# EAGLE library part TRHEI?-2 (library #PaJa_31)
Transformator - do DPS - 2x sek. 202 - 0,35 VA 304 - 2,6 VA 382 - 4,5 VA 422 - 6 VA 481 - 10 VA
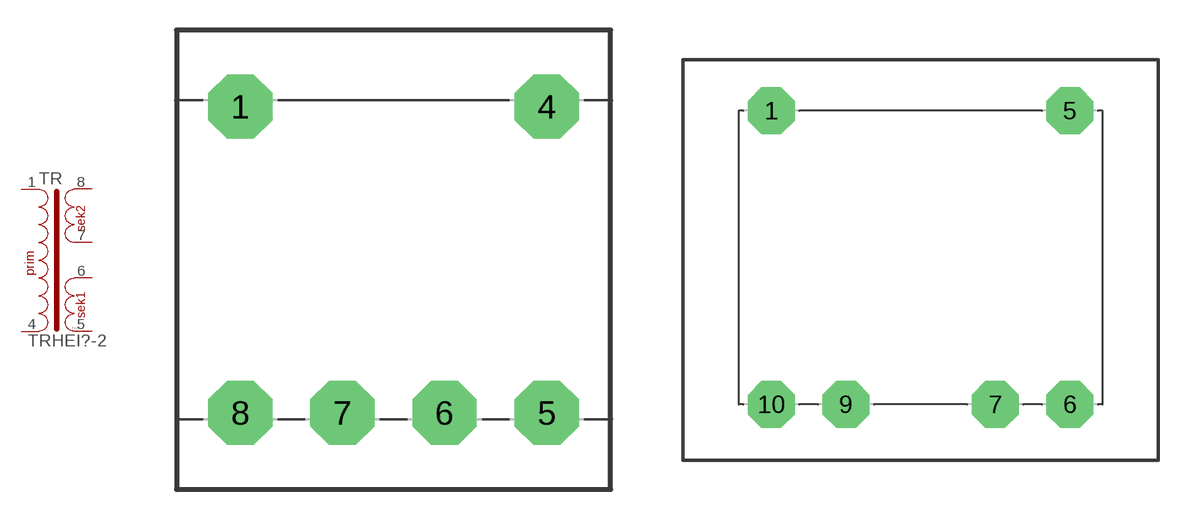
[diagram p24: symbol with the pads of TRHEI202; footprints TRHEI202, TRHEI304]

Designator prefix TR

## TRHEI202-2  [TRHEI202]
1  P1  pas
4  P2  pas
5  S1-1  pas
6  S1-2  pas
7  S2-1  pas
8  S2-2  pas

## TRHEI304-2  [TRHEI304]
1  P1  pas
5  P2  pas
6  S1-1  pas
7  S1-2  pas
9  S2-1  pas
10  S2-2  pas

## TRHEI382-2  [TRHEI382]
Pads as for TRHEI304

## TRHEI422-2  [TRHEI422]
Pads as for TRHEI304

## TRHEI481-2  [TRHEI481]
1  P1  pas
6  P2  pas
7  S1-1  pas
8  S1-2  pas
11  S2-1  pas
12  S2-2  pas

## Footprint TRHEI202 (pad centres in mm)
drill 1.016 pad 3.2 octagon: 1 -7.62,7.62; 4 7.62,7.62; 5 7.62,-7.62; 6 2.54,-7.62; 7 -2.54,-7.62; 8 -7.62,-7.62

## Footprint TRHEI304 (pad centres in mm)
drill 1.016 pad 3.2 octagon: 1 -10.16,10.16; 5 10.16,10.16; 6 10.16,-9.842; 7 5.08,-9.842; 9 -5.08,-9.842; 10 -10.16,-9.842

## Footprint TRHEI382 (pad centres in mm)
drill 1.016 pad 3.2 octagon: 1 -10.16,12.7; 5 10.16,12.7; 6 10.16,-12.383; 7 5.08,-12.383; 9 -5.08,-12.383; 10 -10.16,-12.383

## Footprint TRHEI422 (pad centres in mm)
drill 1.27 pad 3.81 octagon: 1 -12.7,-12.383; 5 -12.7,12.7; 6 12.383,12.7; 7 12.383,7.62; 9 12.383,-7.303; 10 12.383,-12.383
hole 5.08 at 0,27.622
hole 5.08 at 0,-27.622

## Footprint TRHEI481 (pad centres in mm)
drill 1.27 pad 3.81 octagon: 1 -13.652,-14.922; 6 -13.652,15.24; 7 13.97,15.24; 8 13.97,10.16; 11 13.97,-9.842; 12 13.97,-14.922
hole 5.08 at 0,30.163
hole 5.08 at 0,-30.163